# Altium schematic symbol library jlcpcb_2025_04_capacitors_extended_1812.schlib: 342 symbols (part 2 of 7)
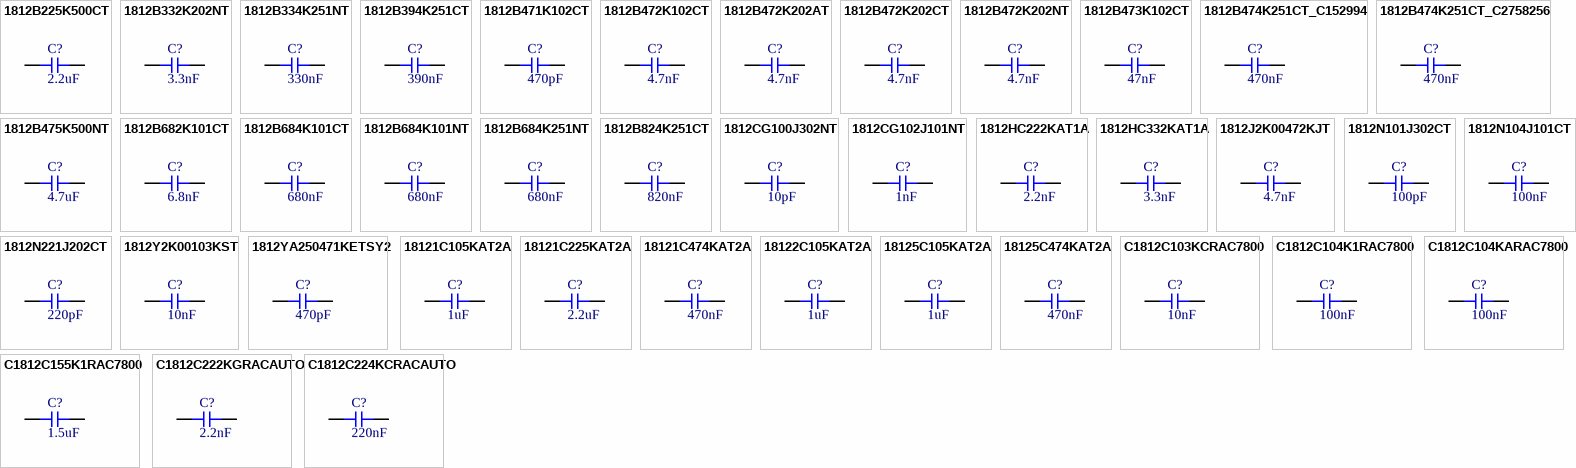
[diagram p9: symbols 1812B225K500CT to C1812C224KCRACAUTO]

## 1812B473K102CT
designator C?  Capacitance: 47nF  (hidden comment: *)
Capacitor, Ceramic (MLCC), 47nF, ±10%, 1kV, X7R, ±10%, SMD 1812; Manufacturer: Walsin Tech Corp; Manufacturer Part Number: 1812B473K102CT; Package Size: 1812; JLCPCB Basic Part: No; JLCPCB Part Number: C3880049; Supplier 1: LCSC; Category: Capacitors - MLCC; Supplier Part Number 1: C3880049; Tolerance: ±10%; Voltage Rating: 1kV; Temperature Coefficient: X7R; RoHS: Yes; ComponentLink1Description: Datasheet; ComponentLink1URL: https://wmsc.lcsc.com/wmsc/upload/file/pdf/v2/lcsc/2401181539_Walsin-Tech-Corp-1812B473K102CT_C3880049.pdf; ComponentLink2Description: JLCPCB Part URL; ComponentLink2URL: https://jlcpcb.com/partdetail/C3880049; ComponentLink3Description: LCSC Part URL; ComponentLink3URL: https://lcsc.com/product-detail/Multilayer-Ceramic-Capacitors-MLCC---SMD-SMT_Walsin-Tech-Corp-Walsin-Tech-Corp-1812B473K102CT_C3880049.html
footprint CAP-1812 (1812 (4532M) Capacitor)
pins: 1, 2

## 1812B474K251CT_C152994
designator C?  Capacitance: 470nF  (hidden comment: *)
Capacitor, Ceramic (MLCC), 470nF, ±10%, 250V, X7R, ±10%, SMD 1812; Manufacturer: Walsin Tech Corp; Manufacturer Part Number: 1812B474K251CT; Package Size: 1812; JLCPCB Basic Part: No; JLCPCB Part Number: C152994; Supplier 1: LCSC; Category: Capacitors - MLCC; Supplier Part Number 1: C152994; Tolerance: ±10%; Voltage Rating: 250V; Temperature Coefficient: X7R; RoHS: Yes; ComponentLink1Description: Datasheet; ComponentLink1URL: https://wmsc.lcsc.com/wmsc/upload/file/pdf/v2/lcsc/2304140030_Walsin-Tech-Corp-1812B474K251CT_C152994.pdf; ComponentLink2Description: JLCPCB Part URL; ComponentLink2URL: https://jlcpcb.com/partdetail/C152994; ComponentLink3Description: LCSC Part URL; ComponentLink3URL: https://lcsc.com/product-detail/Multilayer-Ceramic-Capacitors-MLCC---SMD-SMT_Walsin-Tech-Corp-Walsin-Tech-Corp-1812B474K251CT_C152994.html
footprint CAP-1812 (1812 (4532M) Capacitor)
pins: 1, 2

## 1812B474K251CT_C2758256
designator C?  Capacitance: 470nF  (hidden comment: *)
Capacitor, Ceramic (MLCC), 470nF, ±10%, 250V, X7R, ±10%, SMD 1812; Manufacturer: Walsin Tech Corp; Manufacturer Part Number: 1812B474K251CT; Package Size: 1812; JLCPCB Basic Part: No; JLCPCB Part Number: C2758256; Supplier 1: LCSC; Category: Capacitors - MLCC; Supplier Part Number 1: C2758256; Tolerance: ±10%; Voltage Rating: 250V; Temperature Coefficient: X7R; RoHS: Yes; ComponentLink1Description: Datasheet; ComponentLink1URL: https://wmsc.lcsc.com/wmsc/upload/file/pdf/v2/lcsc/2304140030_Walsin-Tech-Corp-1812B474K251CT_C2758256.pdf; ComponentLink2Description: JLCPCB Part URL; ComponentLink2URL: https://jlcpcb.com/partdetail/C2758256; ComponentLink3Description: LCSC Part URL; ComponentLink3URL: https://lcsc.com/product-detail/Multilayer-Ceramic-Capacitors-MLCC---SMD-SMT_Walsin-Tech-Corp-Walsin-Tech-Corp-1812B474K251CT_C2758256.html
footprint CAP-1812 (1812 (4532M) Capacitor)
pins: 1, 2

## 1812B475K500NT
designator C?  Capacitance: 4.7uF  (hidden comment: *)
Capacitor, Ceramic (MLCC), 4.7uF, ±10%, 50V, X7R, ±10%, SMD 1812; Manufacturer: FH(Guangdong Fenghua Advanced Tech); Manufacturer Part Number: 1812B475K500NT; Package Size: 1812; JLCPCB Basic Part: No; JLCPCB Part Number: C24976; Supplier 1: LCSC; Category: Capacitors - MLCC; Supplier Part Number 1: C24976; Tolerance: ±10%; Voltage Rating: 50V; Temperature Coefficient: X7R; RoHS: Yes; ComponentLink1Description: Datasheet; ComponentLink1URL: https://wmsc.lcsc.com/wmsc/upload/file/pdf/v2/lcsc/2304140030_FH--Guangdong-Fenghua-Advanced-Tech-1812B475K500NT_C24976.pdf; ComponentLink2Description: JLCPCB Part URL; ComponentLink2URL: https://jlcpcb.com/partdetail/C24976; ComponentLink3Description: LCSC Part URL; ComponentLink3URL: https://lcsc.com/product-detail/Multilayer-Ceramic-Capacitors-MLCC---SMD-SMT_FH-Guangdong-Fenghua-Advanced-Tech-FH-Guangdong-Fenghua-Advanced-Tech-1812B475K500NT_C24976.html
footprint CAP-1812 (1812 (4532M) Capacitor)
pins: 1, 2

## 1812B682K101CT
designator C?  Capacitance: 6.8nF  (hidden comment: *)
Capacitor, Ceramic (MLCC), 6.8nF, ±10%, 100V, X7R, ±10%, SMD 1812; Manufacturer: Walsin Tech Corp; Manufacturer Part Number: 1812B682K101CT; Package Size: 1812; JLCPCB Basic Part: No; JLCPCB Part Number: C152993; Supplier 1: LCSC; Category: Capacitors - MLCC; Supplier Part Number 1: C152993; Tolerance: ±10%; Voltage Rating: 100V; Temperature Coefficient: X7R; RoHS: Yes; ComponentLink1Description: Datasheet; ComponentLink1URL: https://wmsc.lcsc.com/wmsc/upload/file/pdf/v2/lcsc/2304140030_Walsin-Tech-Corp-1812B682K101CT_C152993.pdf; ComponentLink2Description: JLCPCB Part URL; ComponentLink2URL: https://jlcpcb.com/partdetail/C152993; ComponentLink3Description: LCSC Part URL; ComponentLink3URL: https://lcsc.com/product-detail/Multilayer-Ceramic-Capacitors-MLCC---SMD-SMT_Walsin-Tech-Corp-Walsin-Tech-Corp-1812B682K101CT_C152993.html
footprint CAP-1812 (1812 (4532M) Capacitor)
pins: 1, 2

## 1812B684K101CT
designator C?  Capacitance: 680nF  (hidden comment: *)
Capacitor, Ceramic (MLCC), 680nF, ±10%, 100V, X7R, ±10%, SMD 1812; Manufacturer: Walsin Tech Corp; Manufacturer Part Number: 1812B684K101CT; Package Size: 1812; JLCPCB Basic Part: No; JLCPCB Part Number: C237233; Supplier 1: LCSC; Category: Capacitors - MLCC; Supplier Part Number 1: C237233; Tolerance: ±10%; Voltage Rating: 100V; Temperature Coefficient: X7R; RoHS: Yes; ComponentLink1Description: Datasheet; ComponentLink1URL: https://wmsc.lcsc.com/wmsc/upload/file/pdf/v2/lcsc/2304140030_Walsin-Tech-Corp-1812B684K101CT_C237233.pdf; ComponentLink2Description: JLCPCB Part URL; ComponentLink2URL: https://jlcpcb.com/partdetail/C237233; ComponentLink3Description: LCSC Part URL; ComponentLink3URL: https://lcsc.com/product-detail/Multilayer-Ceramic-Capacitors-MLCC---SMD-SMT_Walsin-Tech-Corp-Walsin-Tech-Corp-1812B684K101CT_C237233.html
footprint CAP-1812 (1812 (4532M) Capacitor)
pins: 1, 2

## 1812B684K101NT
designator C?  Capacitance: 680nF  (hidden comment: *)
Capacitor, Ceramic (MLCC), 680nF, ±10%, 100V, X7R, ±10%, SMD 1812; Manufacturer: FH(Guangdong Fenghua Advanced Tech); Manufacturer Part Number: 1812B684K101NT; Package Size: 1812; JLCPCB Basic Part: No; JLCPCB Part Number: C50719; Supplier 1: LCSC; Category: Capacitors - MLCC; Supplier Part Number 1: C50719; Tolerance: ±10%; Voltage Rating: 100V; Temperature Coefficient: X7R; RoHS: Yes; ComponentLink1Description: Datasheet; ComponentLink1URL: https://wmsc.lcsc.com/wmsc/upload/file/pdf/v2/lcsc/2304140030_FH--Guangdong-Fenghua-Advanced-Tech-1812B684K101NT_C50719.pdf; ComponentLink2Description: JLCPCB Part URL; ComponentLink2URL: https://jlcpcb.com/partdetail/C50719; ComponentLink3Description: LCSC Part URL; ComponentLink3URL: https://lcsc.com/product-detail/Multilayer-Ceramic-Capacitors-MLCC---SMD-SMT_FH-Guangdong-Fenghua-Advanced-Tech-FH-Guangdong-Fenghua-Advanced-Tech-1812B684K101NT_C50719.html
footprint CAP-1812 (1812 (4532M) Capacitor)
pins: 1, 2

## 1812B684K251NT
designator C?  Capacitance: 680nF  (hidden comment: *)
Capacitor, Ceramic (MLCC), 680nF, ±10%, 250V, ±10%, SMD 1812; Manufacturer: FH (Guangdong Fenghua Advanced Tech); Manufacturer Part Number: 1812B684K251NT; Package Size: 1812; JLCPCB Basic Part: No; JLCPCB Part Number: C967615; Supplier 1: LCSC; Category: Capacitors - MLCC; Supplier Part Number 1: C967615; Tolerance: ±10%; Voltage Rating: 250V; RoHS: Yes; ComponentLink1Description: Datasheet; ComponentLink1URL: https://wmsc.lcsc.com/wmsc/upload/file/pdf/v2/lcsc/2304140030_FH--Guangdong-Fenghua-Advanced-Tech-1812B684K251NT_C967615.pdf; ComponentLink2Description: JLCPCB Part URL; ComponentLink2URL: https://jlcpcb.com/partdetail/C967615; ComponentLink3Description: LCSC Part URL; ComponentLink3URL: https://lcsc.com/product-detail/Multilayer-Ceramic-Capacitors-MLCC---SMD-SMT_FH-Guangdong-Fenghua-Advanced-Tech-FH-Guangdong-Fenghua-Advanced-Tech-1812B684K251NT_C967615.html
footprint CAP-1812 (1812 (4532M) Capacitor)
pins: 1, 2

## 1812B824K251CT
designator C?  Capacitance: 820nF  (hidden comment: *)
Capacitor, Ceramic (MLCC), 820nF, ±10%, 250V, X7R, ±10%, SMD 1812; Manufacturer: Walsin Tech Corp; Manufacturer Part Number: 1812B824K251CT; Package Size: 1812; JLCPCB Basic Part: No; JLCPCB Part Number: C384706; Supplier 1: LCSC; Category: Capacitors - MLCC; Supplier Part Number 1: C384706; Tolerance: ±10%; Voltage Rating: 250V; Temperature Coefficient: X7R; RoHS: Yes; ComponentLink1Description: Datasheet; ComponentLink1URL: https://wmsc.lcsc.com/wmsc/upload/file/pdf/v2/lcsc/2304140030_Walsin-Tech-Corp-1812B824K251CT_C384706.pdf; ComponentLink2Description: JLCPCB Part URL; ComponentLink2URL: https://jlcpcb.com/partdetail/C384706; ComponentLink3Description: LCSC Part URL; ComponentLink3URL: https://lcsc.com/product-detail/Multilayer-Ceramic-Capacitors-MLCC---SMD-SMT_Walsin-Tech-Corp-Walsin-Tech-Corp-1812B824K251CT_C384706.html
footprint CAP-1812 (1812 (4532M) Capacitor)
pins: 1, 2

## 1812CG100J302NT
designator C?  Capacitance: 10pF  (hidden comment: *)
Capacitor, Ceramic (MLCC), 10pF, ±5%, 3kV, C0G, ±5%, SMD 1812; Manufacturer: FH(Guangdong Fenghua Advanced Tech); Manufacturer Part Number: 1812CG100J302NT; Package Size: 1812; JLCPCB Basic Part: No; JLCPCB Part Number: C880261; Supplier 1: LCSC; Category: Capacitors - MLCC; Supplier Part Number 1: C880261; Tolerance: ±5%; Voltage Rating: 3kV; Temperature Coefficient: C0G; RoHS: Yes; ComponentLink1Description: Datasheet; ComponentLink1URL: https://wmsc.lcsc.com/wmsc/upload/file/pdf/v2/lcsc/2304140030_FH--Guangdong-Fenghua-Advanced-Tech-1812CG100J302NT_C880261.pdf; ComponentLink2Description: JLCPCB Part URL; ComponentLink2URL: https://jlcpcb.com/partdetail/C880261; ComponentLink3Description: LCSC Part URL; ComponentLink3URL: https://lcsc.com/product-detail/Multilayer-Ceramic-Capacitors-MLCC---SMD-SMT_FH-Guangdong-Fenghua-Advanced-Tech-FH-Guangdong-Fenghua-Advanced-Tech-1812CG100J302NT_C880261.html
footprint CAP-1812 (1812 (4532M) Capacitor)
pins: 1, 2

## 1812CG102J101NT
designator C?  Capacitance: 1nF  (hidden comment: *)
Capacitor, Ceramic (MLCC), 1nF, 100V, C0G, SMD 1812; Manufacturer: FH (Guangdong Fenghua Advanced Tech); Manufacturer Part Number: 1812CG102J101NT; Package Size: 1812; JLCPCB Basic Part: No; JLCPCB Part Number: C3037691; Supplier 1: LCSC; Category: Capacitors - MLCC; Supplier Part Number 1: C3037691; Voltage Rating: 100V; Temperature Coefficient: C0G; RoHS: Yes; ComponentLink1Description: Datasheet; ComponentLink1URL: https://wmsc.lcsc.com/wmsc/upload/file/pdf/v2/lcsc/2206171645_FH--Guangdong-Fenghua-Advanced-Tech-1812CG102J101NT_C3037691.pdf; ComponentLink2Description: JLCPCB Part URL; ComponentLink2URL: https://jlcpcb.com/partdetail/C3037691; ComponentLink3Description: LCSC Part URL; ComponentLink3URL: https://lcsc.com/product-detail/Multilayer-Ceramic-Capacitors-MLCC---SMD-SMT_FH-Guangdong-Fenghua-Advanced-Tech-FH-Guangdong-Fenghua-Advanced-Tech-1812CG102J101NT_C3037691.html
footprint CAP-1812 (1812 (4532M) Capacitor)
pins: 1, 2

## 1812HC222KAT1A
designator C?  Capacitance: 2.2nF  (hidden comment: *)
Capacitor, Ceramic (MLCC), 2.2nF, ±10%, 3kV, X7R, ±10%, SMD 1812; Manufacturer: Kyocera AVX; Manufacturer Part Number: 1812HC222KAT1A; Package Size: 1812; JLCPCB Basic Part: No; JLCPCB Part Number: C2168035; Supplier 1: LCSC; Category: Capacitors - MLCC; Supplier Part Number 1: C2168035; Tolerance: ±10%; Voltage Rating: 3kV; Temperature Coefficient: X7R; RoHS: Yes; ComponentLink1Description: Datasheet; ComponentLink1URL: https://wmsc.lcsc.com/wmsc/upload/file/pdf/v2/lcsc/2309151035_Kyocera-AVX-1812HC222KAT1A_C2168035.pdf; ComponentLink2Description: JLCPCB Part URL; ComponentLink2URL: https://jlcpcb.com/partdetail/C2168035; ComponentLink3Description: LCSC Part URL; ComponentLink3URL: https://lcsc.com/product-detail/Multilayer-Ceramic-Capacitors-MLCC---SMD-SMT_Kyocera-AVX-Kyocera-AVX-1812HC222KAT1A_C2168035.html
footprint CAP-1812 (1812 (4532M) Capacitor)
pins: 1, 2

## 1812HC332KAT1A
designator C?  Capacitance: 3.3nF  (hidden comment: *)
Capacitor, Ceramic (MLCC), 3.3nF, ±10%, 3kV, X7R, ±10%, SMD 1812; Manufacturer: AVX; Manufacturer Part Number: 1812HC332KAT1A; Package Size: 1812; JLCPCB Basic Part: No; JLCPCB Part Number: C597622; Supplier 1: LCSC; Category: Capacitors - MLCC; Supplier Part Number 1: C597622; Tolerance: ±10%; Voltage Rating: 3kV; Temperature Coefficient: X7R; RoHS: Yes; ComponentLink1Description: Datasheet; ComponentLink1URL: https://wmsc.lcsc.com/wmsc/upload/file/pdf/v2/lcsc/2304140030_Kyocera-AVX-1812HC332KAT1A_C597622.pdf; ComponentLink2Description: JLCPCB Part URL; ComponentLink2URL: https://jlcpcb.com/partdetail/C597622; ComponentLink3Description: LCSC Part URL; ComponentLink3URL: https://lcsc.com/product-detail/Multilayer-Ceramic-Capacitors-MLCC---SMD-SMT_Kyocera-AVX-Kyocera-AVX-1812HC332KAT1A_C597622.html
footprint CAP-1812 (1812 (4532M) Capacitor)
pins: 1, 2

## 1812J2K00472KJT
designator C?  Capacitance: 4.7nF  (hidden comment: *)
Capacitor, Ceramic (MLCC), 4.7nF, ±10%, 2kV, X7R, ±10%, SMD 1812; Manufacturer: Knowles; Manufacturer Part Number: 1812J2K00472KJT; Package Size: 1812; JLCPCB Basic Part: No; JLCPCB Part Number: C340548; Supplier 1: LCSC; Category: Capacitors - MLCC; Supplier Part Number 1: C340548; Tolerance: ±10%; Voltage Rating: 2kV; Temperature Coefficient: X7R; RoHS: Yes; ComponentLink1Description: Datasheet; ComponentLink1URL: https://wmsc.lcsc.com/wmsc/upload/file/pdf/v2/lcsc/1912111437_Knowles-1812J2K00472KJT_C340548.pdf; ComponentLink2Description: JLCPCB Part URL; ComponentLink2URL: https://jlcpcb.com/partdetail/C340548; ComponentLink3Description: LCSC Part URL; ComponentLink3URL: https://lcsc.com/product-detail/Multilayer-Ceramic-Capacitors-MLCC---SMD-SMT_Knowles-Knowles-1812J2K00472KJT_C340548.html
footprint CAP-1812 (1812 (4532M) Capacitor)
pins: 1, 2

## 1812N101J302CT
designator C?  Capacitance: 100pF  (hidden comment: *)
Capacitor, Ceramic (MLCC), 100pF, ±5%, 3kV, C0G, ±5%, SMD 1812; Manufacturer: Walsin Tech Corp; Manufacturer Part Number: 1812N101J302CT; Package Size: 1812; JLCPCB Basic Part: No; JLCPCB Part Number: C3871135; Supplier 1: LCSC; Category: Capacitors - MLCC; Supplier Part Number 1: C3871135; Tolerance: ±5%; Voltage Rating: 3kV; Temperature Coefficient: C0G; RoHS: Yes; ComponentLink1Description: Datasheet; ComponentLink1URL: https://wmsc.lcsc.com/wmsc/upload/file/pdf/v2/lcsc/2401181515_Walsin-Tech-Corp-1812N101J302CT_C3871135.pdf; ComponentLink2Description: JLCPCB Part URL; ComponentLink2URL: https://jlcpcb.com/partdetail/C3871135; ComponentLink3Description: LCSC Part URL; ComponentLink3URL: https://lcsc.com/product-detail/Multilayer-Ceramic-Capacitors-MLCC---SMD-SMT_Walsin-Tech-Corp-Walsin-Tech-Corp-1812N101J302CT_C3871135.html
footprint CAP-1812 (1812 (4532M) Capacitor)
pins: 1, 2

## 1812N104J101CT
designator C?  Capacitance: 100nF  (hidden comment: *)
Capacitor, Ceramic (MLCC), 100nF, ±5%, 100V, NP0, ±5%, SMD 1812; Manufacturer: Walsin Tech Corp; Manufacturer Part Number: 1812N104J101CT; Package Size: 1812; JLCPCB Basic Part: No; JLCPCB Part Number: C304037; Supplier 1: LCSC; Category: Capacitors - MLCC; Supplier Part Number 1: C304037; Tolerance: ±5%; Voltage Rating: 100V; Temperature Coefficient: NP0; RoHS: Yes; ComponentLink1Description: Datasheet; ComponentLink1URL: https://wmsc.lcsc.com/wmsc/upload/file/pdf/v2/lcsc/2304231850_Walsin-Tech-Corp-1812N104J101CT_C304037.pdf; ComponentLink2Description: JLCPCB Part URL; ComponentLink2URL: https://jlcpcb.com/partdetail/C304037; ComponentLink3Description: LCSC Part URL; ComponentLink3URL: https://lcsc.com/product-detail/Multilayer-Ceramic-Capacitors-MLCC---SMD-SMT_Walsin-Tech-Corp-Walsin-Tech-Corp-1812N104J101CT_C304037.html
footprint CAP-1812 (1812 (4532M) Capacitor)
pins: 1, 2

## 1812N221J202CT
designator C?  Capacitance: 220pF  (hidden comment: *)
Capacitor, Ceramic (MLCC), 220pF, ±5%, 2kV, NP0, ±5%, SMD 1812; Manufacturer: Walsin Tech Corp; Manufacturer Part Number: 1812N221J202CT; Package Size: 1812; JLCPCB Basic Part: No; JLCPCB Part Number: C525510; Supplier 1: LCSC; Category: Capacitors - MLCC; Supplier Part Number 1: C525510; Tolerance: ±5%; Voltage Rating: 2kV; Temperature Coefficient: NP0; RoHS: Yes; ComponentLink1Description: Datasheet; ComponentLink1URL: https://wmsc.lcsc.com/wmsc/upload/file/pdf/v2/lcsc/2304140030_Walsin-Tech-Corp-1812N221J202CT_C525510.pdf; ComponentLink2Description: JLCPCB Part URL; ComponentLink2URL: https://jlcpcb.com/partdetail/C525510; ComponentLink3Description: LCSC Part URL; ComponentLink3URL: https://lcsc.com/product-detail/Multilayer-Ceramic-Capacitors-MLCC---SMD-SMT_Walsin-Tech-Corp-Walsin-Tech-Corp-1812N221J202CT_C525510.html
footprint CAP-1812 (1812 (4532M) Capacitor)
pins: 1, 2

## 1812Y2K00103KST
designator C?  Capacitance: 10nF  (hidden comment: *)
Capacitor, Ceramic (MLCC), 10nF, ±10%, 2kV, X7R, ±10%, SMD 1812; Manufacturer: Knowles; Manufacturer Part Number: 1812Y2K00103KST; Package Size: 1812; JLCPCB Basic Part: No; JLCPCB Part Number: C3870958; Supplier 1: LCSC; Category: Capacitors - MLCC; Supplier Part Number 1: C3870958; Tolerance: ±10%; Voltage Rating: 2kV; Temperature Coefficient: X7R; RoHS: Yes; ComponentLink1Description: Datasheet; ComponentLink2Description: JLCPCB Part URL; ComponentLink2URL: https://jlcpcb.com/partdetail/C3870958; ComponentLink3Description: LCSC Part URL; ComponentLink3URL: https://lcsc.com/product-detail/Multilayer-Ceramic-Capacitors-MLCC---SMD-SMT_Knowles-Knowles-1812Y2K00103KST_C3870958.html
footprint CAP-1812 (1812 (4532M) Capacitor)
pins: 1, 2

## 1812YA250471KETSY2
designator C?  Capacitance: 470pF  (hidden comment: *)
Capacitor, Ceramic (MLCC), 470pF, ±10%, 2.5kV, X7R, ±10%, SMD 1812; Manufacturer: Knowles; Manufacturer Part Number: 1812YA250471KETSY2; Package Size: 1812; JLCPCB Basic Part: No; JLCPCB Part Number: C340486; Supplier 1: LCSC; Category: Capacitors - MLCC; Supplier Part Number 1: C340486; Tolerance: ±10%; Voltage Rating: 2.5kV; Temperature Coefficient: X7R; RoHS: Yes; ComponentLink1Description: Datasheet; ComponentLink1URL: https://wmsc.lcsc.com/wmsc/upload/file/pdf/v2/lcsc/1912111437_Knowles-1812YA250471KETSY2_C340486.pdf; ComponentLink2Description: JLCPCB Part URL; ComponentLink2URL: https://jlcpcb.com/partdetail/C340486; ComponentLink3Description: LCSC Part URL; ComponentLink3URL: https://lcsc.com/product-detail/Multilayer-Ceramic-Capacitors-MLCC---SMD-SMT_Knowles-Knowles-1812YA250471KETSY2_C340486.html
footprint CAP-1812 (1812 (4532M) Capacitor)
pins: 1, 2

## 18121C105KAT2A
designator C?  Capacitance: 1uF  (hidden comment: *)
Capacitor, Ceramic (MLCC), 1uF, ±10%, 100V, X7R, ±10%, SMD 1812; Manufacturer: Kyocera AVX; Manufacturer Part Number: 18121C105KAT2A; Package Size: 1812; JLCPCB Basic Part: No; JLCPCB Part Number: C1845511; Supplier 1: LCSC; Category: Capacitors - MLCC; Supplier Part Number 1: C1845511; Tolerance: ±10%; Voltage Rating: 100V; Temperature Coefficient: X7R; RoHS: Yes; ComponentLink1Description: Datasheet; ComponentLink2Description: JLCPCB Part URL; ComponentLink2URL: https://jlcpcb.com/partdetail/C1845511; ComponentLink3Description: LCSC Part URL; ComponentLink3URL: https://lcsc.com/product-detail/Multilayer-Ceramic-Capacitors-MLCC---SMD-SMT_Kyocera-AVX-Kyocera-AVX-18121C105KAT2A_C1845511.html
footprint CAP-1812 (1812 (4532M) Capacitor)
pins: 1, 2

## 18121C225KAT2A
designator C?  Capacitance: 2.2uF  (hidden comment: *)
Capacitor, Ceramic (MLCC), 2.2uF, ±10%, 100V, X7R, ±10%, SMD 1812; Manufacturer: AVX; Manufacturer Part Number: 18121C225KAT2A; Package Size: 1812; JLCPCB Basic Part: No; JLCPCB Part Number: C597606; Supplier 1: LCSC; Category: Capacitors - MLCC; Supplier Part Number 1: C597606; Tolerance: ±10%; Voltage Rating: 100V; Temperature Coefficient: X7R; RoHS: Yes; ComponentLink1Description: Datasheet; ComponentLink1URL: https://wmsc.lcsc.com/wmsc/upload/file/pdf/v2/lcsc/2304140030_Kyocera-AVX-18121C225KAT2A_C597606.pdf; ComponentLink2Description: JLCPCB Part URL; ComponentLink2URL: https://jlcpcb.com/partdetail/C597606; ComponentLink3Description: LCSC Part URL; ComponentLink3URL: https://lcsc.com/product-detail/Multilayer-Ceramic-Capacitors-MLCC---SMD-SMT_Kyocera-AVX-Kyocera-AVX-18121C225KAT2A_C597606.html
footprint CAP-1812 (1812 (4532M) Capacitor)
pins: 1, 2

## 18121C474KAT2A
designator C?  Capacitance: 470nF  (hidden comment: *)
Capacitor, Ceramic (MLCC), 470nF, ±10%, 100V, X7R, ±10%, SMD 1812; Manufacturer: Kyocera AVX; Manufacturer Part Number: 18121C474KAT2A; Package Size: 1812; JLCPCB Basic Part: No; JLCPCB Part Number: C669101; Supplier 1: LCSC; Category: Capacitors - MLCC; Supplier Part Number 1: C669101; Tolerance: ±10%; Voltage Rating: 100V; Temperature Coefficient: X7R; RoHS: Yes; ComponentLink1Description: Datasheet; ComponentLink1URL: https://wmsc.lcsc.com/wmsc/upload/file/pdf/v2/lcsc/2302142030_Kyocera-AVX-18121C474KAT2A_C669101.pdf; ComponentLink2Description: JLCPCB Part URL; ComponentLink2URL: https://jlcpcb.com/partdetail/C669101; ComponentLink3Description: LCSC Part URL; ComponentLink3URL: https://lcsc.com/product-detail/Multilayer-Ceramic-Capacitors-MLCC---SMD-SMT_Kyocera-AVX-Kyocera-AVX-18121C474KAT2A_C669101.html
footprint CAP-1812 (1812 (4532M) Capacitor)
pins: 1, 2

## 18122C105KAT2A
designator C?  Capacitance: 1uF  (hidden comment: *)
Capacitor, Ceramic (MLCC), 1uF, ±10%, 200V, X7R, ±10%, SMD 1812; Manufacturer: AVX; Manufacturer Part Number: 18122C105KAT2A; Package Size: 1812; JLCPCB Basic Part: No; JLCPCB Part Number: C597611; Supplier 1: LCSC; Category: Capacitors - MLCC; Supplier Part Number 1: C597611; Tolerance: ±10%; Voltage Rating: 200V; Temperature Coefficient: X7R; RoHS: Yes; ComponentLink1Description: Datasheet; ComponentLink1URL: https://wmsc.lcsc.com/wmsc/upload/file/pdf/v2/lcsc/2304140030_Kyocera-AVX-18122C105KAT2A_C597611.pdf; ComponentLink2Description: JLCPCB Part URL; ComponentLink2URL: https://jlcpcb.com/partdetail/C597611; ComponentLink3Description: LCSC Part URL; ComponentLink3URL: https://lcsc.com/product-detail/Multilayer-Ceramic-Capacitors-MLCC---SMD-SMT_Kyocera-AVX-Kyocera-AVX-18122C105KAT2A_C597611.html
footprint CAP-1812 (1812 (4532M) Capacitor)
pins: 1, 2

## 18125C105KAT2A
designator C?  Capacitance: 1uF  (hidden comment: *)
Capacitor, Ceramic (MLCC), 1uF, ±10%, 50V, X7R, ±10%, SMD 1812; Manufacturer: AVX; Manufacturer Part Number: 18125C105KAT2A; Package Size: 1812; JLCPCB Basic Part: No; JLCPCB Part Number: C597615; Supplier 1: LCSC; Category: Capacitors - MLCC; Supplier Part Number 1: C597615; Tolerance: ±10%; Voltage Rating: 50V; Temperature Coefficient: X7R; RoHS: Yes; ComponentLink1Description: Datasheet; ComponentLink1URL: https://wmsc.lcsc.com/wmsc/upload/file/pdf/v2/lcsc/2304140030_Kyocera-AVX-18125C105KAT2A_C597615.pdf; ComponentLink2Description: JLCPCB Part URL; ComponentLink2URL: https://jlcpcb.com/partdetail/C597615; ComponentLink3Description: LCSC Part URL; ComponentLink3URL: https://lcsc.com/product-detail/Multilayer-Ceramic-Capacitors-MLCC---SMD-SMT_Kyocera-AVX-Kyocera-AVX-18125C105KAT2A_C597615.html
footprint CAP-1812 (1812 (4532M) Capacitor)
pins: 1, 2

## 18125C474KAT2A
designator C?  Capacitance: 470nF  (hidden comment: *)
Capacitor, Ceramic (MLCC), 470nF, ±10%, 50V, X7R, ±10%, SMD 1812; Manufacturer: AVX; Manufacturer Part Number: 18125C474KAT2A; Package Size: 1812; JLCPCB Basic Part: No; JLCPCB Part Number: C597617; Supplier 1: LCSC; Category: Capacitors - MLCC; Supplier Part Number 1: C597617; Tolerance: ±10%; Voltage Rating: 50V; Temperature Coefficient: X7R; RoHS: Yes; ComponentLink1Description: Datasheet; ComponentLink1URL: https://wmsc.lcsc.com/wmsc/upload/file/pdf/v2/lcsc/2304140030_Kyocera-AVX-18125C474KAT2A_C597617.pdf; ComponentLink2Description: JLCPCB Part URL; ComponentLink2URL: https://jlcpcb.com/partdetail/C597617; ComponentLink3Description: LCSC Part URL; ComponentLink3URL: https://lcsc.com/product-detail/Multilayer-Ceramic-Capacitors-MLCC---SMD-SMT_Kyocera-AVX-Kyocera-AVX-18125C474KAT2A_C597617.html
footprint CAP-1812 (1812 (4532M) Capacitor)
pins: 1, 2

## C1812C103KCRAC7800
designator C?  Capacitance: 10nF  (hidden comment: *)
Capacitor, Ceramic (MLCC), 10nF, ±10%, 500V, X7R, ±10%, SMD 1812; Manufacturer: KEMET; Manufacturer Part Number: C1812C103KCRAC7800; Package Size: 1812; JLCPCB Basic Part: No; JLCPCB Part Number: C141242; Supplier 1: LCSC; Category: Capacitors - MLCC; Supplier Part Number 1: C141242; Tolerance: ±10%; Voltage Rating: 500V; Temperature Coefficient: X7R; RoHS: Yes; ComponentLink1Description: Datasheet; ComponentLink1URL: https://wmsc.lcsc.com/wmsc/upload/file/pdf/v2/lcsc/2304140030_KEMET-C1812C103KCRAC7800_C141242.pdf; ComponentLink2Description: JLCPCB Part URL; ComponentLink2URL: https://jlcpcb.com/partdetail/C141242; ComponentLink3Description: LCSC Part URL; ComponentLink3URL: https://lcsc.com/product-detail/Multilayer-Ceramic-Capacitors-MLCC---SMD-SMT_KEMET-KEMET-C1812C103KCRAC7800_C141242.html
footprint CAP-1812 (1812 (4532M) Capacitor)
pins: 1, 2

## C1812C104K1RAC7800
designator C?  Capacitance: 100nF  (hidden comment: *)
Capacitor, Ceramic (MLCC), 100nF, ±10%, 100V, X7R, ±10%, SMD 1812; Manufacturer: KEMET; Manufacturer Part Number: C1812C104K1RAC7800; Package Size: 1812; JLCPCB Basic Part: No; JLCPCB Part Number: C141243; Supplier 1: LCSC; Category: Capacitors - MLCC; Supplier Part Number 1: C141243; Tolerance: ±10%; Voltage Rating: 100V; Temperature Coefficient: X7R; RoHS: Yes; ComponentLink1Description: Datasheet; ComponentLink1URL: https://wmsc.lcsc.com/wmsc/upload/file/pdf/v2/lcsc/2304140030_KEMET-C1812C104K1RAC7800_C141243.pdf; ComponentLink2Description: JLCPCB Part URL; ComponentLink2URL: https://jlcpcb.com/partdetail/C141243; ComponentLink3Description: LCSC Part URL; ComponentLink3URL: https://lcsc.com/product-detail/Multilayer-Ceramic-Capacitors-MLCC---SMD-SMT_KEMET-KEMET-C1812C104K1RAC7800_C141243.html
footprint CAP-1812 (1812 (4532M) Capacitor)
pins: 1, 2

## C1812C104KARAC7800
designator C?  Capacitance: 100nF  (hidden comment: *)
Capacitor, Ceramic (MLCC), 100nF, ±10%, 250V, X7R, ±10%, SMD 1812; Manufacturer: KEMET; Manufacturer Part Number: C1812C104KARAC7800; Package Size: 1812; JLCPCB Basic Part: No; JLCPCB Part Number: C141244; Supplier 1: LCSC; Category: Capacitors - MLCC; Supplier Part Number 1: C141244; Tolerance: ±10%; Voltage Rating: 250V; Temperature Coefficient: X7R; RoHS: Yes; ComponentLink1Description: Datasheet; ComponentLink1URL: https://wmsc.lcsc.com/wmsc/upload/file/pdf/v2/lcsc/2304140030_KEMET-C1812C104KARAC7800_C141244.pdf; ComponentLink2Description: JLCPCB Part URL; ComponentLink2URL: https://jlcpcb.com/partdetail/C141244; ComponentLink3Description: LCSC Part URL; ComponentLink3URL: https://lcsc.com/product-detail/Multilayer-Ceramic-Capacitors-MLCC---SMD-SMT_KEMET-KEMET-C1812C104KARAC7800_C141244.html
footprint CAP-1812 (1812 (4532M) Capacitor)
pins: 1, 2

## C1812C155K1RAC7800
designator C?  Capacitance: 1.5uF  (hidden comment: *)
Capacitor, Ceramic (MLCC), 1.5uF, ±10%, 100V, X7R, ±10%, SMD 1812; Manufacturer: KEMET; Manufacturer Part Number: C1812C155K1RAC7800; Package Size: 1812; JLCPCB Basic Part: No; JLCPCB Part Number: C141246; Supplier 1: LCSC; Category: Capacitors - MLCC; Supplier Part Number 1: C141246; Tolerance: ±10%; Voltage Rating: 100V; Temperature Coefficient: X7R; RoHS: Yes; ComponentLink1Description: Datasheet; ComponentLink1URL: https://wmsc.lcsc.com/wmsc/upload/file/pdf/v2/lcsc/2304140030_KEMET-C1812C155K1RAC7800_C141246.pdf; ComponentLink2Description: JLCPCB Part URL; ComponentLink2URL: https://jlcpcb.com/partdetail/C141246; ComponentLink3Description: LCSC Part URL; ComponentLink3URL: https://lcsc.com/product-detail/Multilayer-Ceramic-Capacitors-MLCC---SMD-SMT_KEMET-KEMET-C1812C155K1RAC7800_C141246.html
footprint CAP-1812 (1812 (4532M) Capacitor)
pins: 1, 2

## C1812C222KGRACAUTO
designator C?  Capacitance: 2.2nF  (hidden comment: *)
Capacitor, Ceramic (MLCC), 2.2nF, ±10%, 2kV, X7R, ±10%, SMD 1812; Manufacturer: KEMET; Manufacturer Part Number: C1812C222KGRACAUTO; Package Size: 1812; JLCPCB Basic Part: No; JLCPCB Part Number: C129679; Supplier 1: LCSC; Category: Capacitors - MLCC; Supplier Part Number 1: C129679; Tolerance: ±10%; Voltage Rating: 2kV; Temperature Coefficient: X7R; RoHS: Yes; ComponentLink1Description: Datasheet; ComponentLink1URL: https://wmsc.lcsc.com/wmsc/upload/file/pdf/v2/lcsc/2304140030_KEMET-C1812C222KGRACAUTO_C129679.pdf; ComponentLink2Description: JLCPCB Part URL; ComponentLink2URL: https://jlcpcb.com/partdetail/C129679; ComponentLink3Description: LCSC Part URL; ComponentLink3URL: https://lcsc.com/product-detail/Multilayer-Ceramic-Capacitors-MLCC---SMD-SMT_KEMET-KEMET-C1812C222KGRACAUTO_C129679.html
footprint CAP-1812 (1812 (4532M) Capacitor)
pins: 1, 2

## C1812C224KCRACAUTO
designator C?  Capacitance: 220nF  (hidden comment: *)
Capacitor, Ceramic (MLCC), 220nF, ±10%, 500V, X7R, ±10%, SMD 1812; Manufacturer: KEMET; Manufacturer Part Number: C1812C224KCRACAUTO; Package Size: 1812; JLCPCB Basic Part: No; JLCPCB Part Number: C2177322; Supplier 1: LCSC; Category: Capacitors - MLCC; Supplier Part Number 1: C2177322; Tolerance: ±10%; Voltage Rating: 500V; Temperature Coefficient: X7R; RoHS: Yes; ComponentLink1Description: Datasheet; ComponentLink1URL: https://wmsc.lcsc.com/wmsc/upload/file/pdf/v2/lcsc/2304140030_KEMET-C1812C224KCRACAUTO_C2177322.pdf; ComponentLink2Description: JLCPCB Part URL; ComponentLink2URL: https://jlcpcb.com/partdetail/C2177322; ComponentLink3Description: LCSC Part URL; ComponentLink3URL: https://lcsc.com/product-detail/Multilayer-Ceramic-Capacitors-MLCC---SMD-SMT_KEMET-KEMET-C1812C224KCRACAUTO_C2177322.html
footprint CAP-1812 (1812 (4532M) Capacitor)
pins: 1, 2

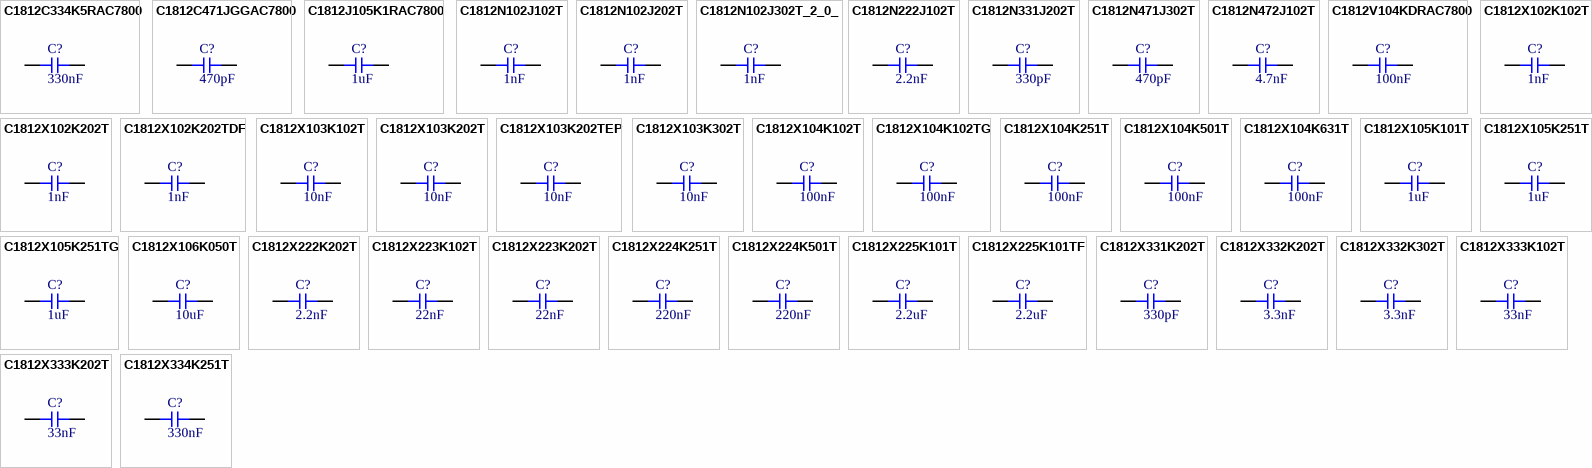
[diagram p2: symbols C1812C334K5RAC7800 to C1812X334K251T]

## C1812C334K5RAC7800
designator C?  Capacitance: 330nF  (hidden comment: *)
Capacitor, Ceramic (MLCC), 330nF, ±10%, 50V, X7R, ±10%, SMD 1812; Manufacturer: KEMET; Manufacturer Part Number: C1812C334K5RAC7800; Package Size: 1812; JLCPCB Basic Part: No; JLCPCB Part Number: C600168; Supplier 1: LCSC; Category: Capacitors - MLCC; Supplier Part Number 1: C600168; Tolerance: ±10%; Voltage Rating: 50V; Temperature Coefficient: X7R; RoHS: Yes; ComponentLink1Description: Datasheet; ComponentLink1URL: https://wmsc.lcsc.com/wmsc/upload/file/pdf/v2/lcsc/2304140030_KEMET-C1812C334K5RAC7800_C600168.pdf; ComponentLink2Description: JLCPCB Part URL; ComponentLink2URL: https://jlcpcb.com/partdetail/C600168; ComponentLink3Description: LCSC Part URL; ComponentLink3URL: https://lcsc.com/product-detail/Multilayer-Ceramic-Capacitors-MLCC---SMD-SMT_KEMET-KEMET-C1812C334K5RAC7800_C600168.html
footprint CAP-1812 (1812 (4532M) Capacitor)
pins: 1, 2

## C1812C471JGGAC7800
designator C?  Capacitance: 470pF  (hidden comment: *)
Capacitor, Ceramic (MLCC), 470pF, ±5%, 2kV, C0G, ±5%, SMD 1812; Manufacturer: KEMET; Manufacturer Part Number: C1812C471JGGAC7800; Package Size: 1812; JLCPCB Basic Part: No; JLCPCB Part Number: C141021; Supplier 1: LCSC; Category: Capacitors - MLCC; Supplier Part Number 1: C141021; Tolerance: ±5%; Voltage Rating: 2kV; Temperature Coefficient: C0G; RoHS: Yes; ComponentLink1Description: Datasheet; ComponentLink1URL: https://wmsc.lcsc.com/wmsc/upload/file/pdf/v2/lcsc/2304140030_KEMET-C1812C471JGGAC7800_C141021.pdf; ComponentLink2Description: JLCPCB Part URL; ComponentLink2URL: https://jlcpcb.com/partdetail/C141021; ComponentLink3Description: LCSC Part URL; ComponentLink3URL: https://lcsc.com/product-detail/Multilayer-Ceramic-Capacitors-MLCC---SMD-SMT_KEMET-KEMET-C1812C471JGGAC7800_C141021.html
footprint CAP-1812 (1812 (4532M) Capacitor)
pins: 1, 2

## C1812J105K1RAC7800
designator C?  Capacitance: 1uF  (hidden comment: *)
Capacitor, Ceramic (MLCC), 1uF, ±10%, 100V, X7R, ±10%, SMD 1812; Manufacturer: KEMET; Manufacturer Part Number: C1812J105K1RAC7800; Package Size: 1812; JLCPCB Basic Part: No; JLCPCB Part Number: C141250; Supplier 1: LCSC; Category: Capacitors - MLCC; Supplier Part Number 1: C141250; Tolerance: ±10%; Voltage Rating: 100V; Temperature Coefficient: X7R; RoHS: Yes; ComponentLink1Description: Datasheet; ComponentLink1URL: https://wmsc.lcsc.com/wmsc/upload/file/pdf/v2/lcsc/1809031711_KEMET-C1812J105K1RAC7800_C141250.pdf; ComponentLink2Description: JLCPCB Part URL; ComponentLink2URL: https://jlcpcb.com/partdetail/C141250; ComponentLink3Description: LCSC Part URL; ComponentLink3URL: https://lcsc.com/product-detail/Multilayer-Ceramic-Capacitors-MLCC---SMD-SMT_KEMET-KEMET-C1812J105K1RAC7800_C141250.html
footprint CAP-1812 (1812 (4532M) Capacitor)
pins: 1, 2

## C1812N102J102T
designator C?  Capacitance: 1nF  (hidden comment: *)
Capacitor, Ceramic (MLCC), 1nF, ±5%, 1kV, NP0, ±5%, SMD 1812; Manufacturer: IHHEC(HOLY STONE ENTERPRISE CO., LTD); Manufacturer Part Number: C1812N102J102T; Package Size: 1812; JLCPCB Basic Part: No; JLCPCB Part Number: C3041225; Supplier 1: LCSC; Category: Capacitors - MLCC; Supplier Part Number 1: C3041225; Tolerance: ±5%; Voltage Rating: 1kV; Temperature Coefficient: NP0; RoHS: Yes; ComponentLink1Description: Datasheet; ComponentLink1URL: https://wmsc.lcsc.com/wmsc/upload/file/pdf/v2/lcsc/2207041730_IHHEC-HOLY-STONE-ENTERPRISE-CO---LTD-C1812N102J102T_C3041225.pdf; ComponentLink2Description: JLCPCB Part URL; ComponentLink2URL: https://jlcpcb.com/partdetail/C3041225; ComponentLink3Description: LCSC Part URL; ComponentLink3URL: https://lcsc.com/product-detail/Multilayer-Ceramic-Capacitors-MLCC---SMD-SMT_IHHECHOLY-STONE-ENTERPRISE-CO.%2C-LTD-IHHECHOLY-STONE-ENTERPRISE-CO.%2C-LTD-C1812N102J102T_C3041225.html
footprint CAP-1812 (1812 (4532M) Capacitor)
pins: 1, 2

## C1812N102J202T
designator C?  Capacitance: 1nF  (hidden comment: *)
Capacitor, Ceramic (MLCC), 1nF, ±5%, 2kV, C0G, ±5%, SMD 1812; Manufacturer: IHHEC(HOLY STONE ENTERPRISE CO., LTD); Manufacturer Part Number: C1812N102J202T; Package Size: 1812; JLCPCB Basic Part: No; JLCPCB Part Number: C106132; Supplier 1: LCSC; Category: Capacitors - MLCC; Supplier Part Number 1: C106132; Tolerance: ±5%; Voltage Rating: 2kV; Temperature Coefficient: C0G; RoHS: Yes; ComponentLink1Description: Datasheet; ComponentLink1URL: https://wmsc.lcsc.com/wmsc/upload/file/pdf/v2/lcsc/2304140030_IHHEC-HOLY-STONE-ENTERPRISE-CO---LTD-C1812N102J202T_C106132.pdf; ComponentLink2Description: JLCPCB Part URL; ComponentLink2URL: https://jlcpcb.com/partdetail/C106132; ComponentLink3Description: LCSC Part URL; ComponentLink3URL: https://lcsc.com/product-detail/Multilayer-Ceramic-Capacitors-MLCC---SMD-SMT_IHHECHOLY-STONE-ENTERPRISE-CO.%2C-LTD-IHHECHOLY-STONE-ENTERPRISE-CO.%2C-LTD-C1812N102J202T_C106132.html
footprint CAP-1812 (1812 (4532M) Capacitor)
pins: 1, 2

## C1812N102J302T_2_0_
designator C?  Capacitance: 1nF  (hidden comment: *)
Capacitor, Ceramic (MLCC), 1nF, ±5%, 3kV, NP0, ±5%, SMD 1812; Manufacturer: IHHEC(HOLY STONE ENTERPRISE CO., LTD); Manufacturer Part Number: C1812N102J302T(2.0); Package Size: 1812; JLCPCB Basic Part: No; JLCPCB Part Number: C406333; Supplier 1: LCSC; Category: Capacitors - MLCC; Supplier Part Number 1: C406333; Tolerance: ±5%; Voltage Rating: 3kV; Temperature Coefficient: NP0; RoHS: Yes; ComponentLink1Description: Datasheet; ComponentLink1URL: https://wmsc.lcsc.com/wmsc/upload/file/pdf/v2/lcsc/2304140030_IHHEC-HOLY-STONE-ENTERPRISE-CO---LTD-C1812N102J302T-2-0_C406333.pdf; ComponentLink2Description: JLCPCB Part URL; ComponentLink2URL: https://jlcpcb.com/partdetail/C406333; ComponentLink3Description: LCSC Part URL; ComponentLink3URL: https://lcsc.com/product-detail/Multilayer-Ceramic-Capacitors-MLCC---SMD-SMT_IHHECHOLY-STONE-ENTERPRISE-CO.%2C-LTD-IHHECHOLY-STONE-ENTERPRISE-CO.%2C-LTD-C1812N102J302T2.0_C406333.html
footprint CAP-1812 (1812 (4532M) Capacitor)
pins: 1, 2

## C1812N222J102T
designator C?  Capacitance: 2.2nF  (hidden comment: *)
Capacitor, Ceramic (MLCC), 2.2nF, 1kV, NP0, SMD 1812; Manufacturer: IHHEC(HOLY STONE ENTERPRISE CO., LTD); Manufacturer Part Number: C1812N222J102T; Package Size: 1812; JLCPCB Basic Part: No; JLCPCB Part Number: C2915766; Supplier 1: LCSC; Category: Capacitors - MLCC; Supplier Part Number 1: C2915766; Voltage Rating: 1kV; Temperature Coefficient: NP0; RoHS: Yes; ComponentLink1Description: Datasheet; ComponentLink1URL: https://wmsc.lcsc.com/wmsc/upload/file/pdf/v2/lcsc/2205051716_IHHEC-HOLY-STONE-ENTERPRISE-CO---LTD-C1812N222J102T_C2915766.pdf; ComponentLink2Description: JLCPCB Part URL; ComponentLink2URL: https://jlcpcb.com/partdetail/C2915766; ComponentLink3Description: LCSC Part URL; ComponentLink3URL: https://lcsc.com/product-detail/Multilayer-Ceramic-Capacitors-MLCC---SMD-SMT_IHHECHOLY-STONE-ENTERPRISE-CO.%2C-LTD-IHHECHOLY-STONE-ENTERPRISE-CO.%2C-LTD-C1812N222J102T_C2915766.html
footprint CAP-1812 (1812 (4532M) Capacitor)
pins: 1, 2

## C1812N331J202T
designator C?  Capacitance: 330pF  (hidden comment: *)
Capacitor, Ceramic (MLCC), 330pF, ±5%, 2kV, C0G, ±5%, SMD 1812; Manufacturer: IHHEC(HOLY STONE ENTERPRISE CO., LTD); Manufacturer Part Number: C1812N331J202T; Package Size: 1812; JLCPCB Basic Part: No; JLCPCB Part Number: C106136; Supplier 1: LCSC; Category: Capacitors - MLCC; Supplier Part Number 1: C106136; Tolerance: ±5%; Voltage Rating: 2kV; Temperature Coefficient: C0G; RoHS: Yes; ComponentLink1Description: Datasheet; ComponentLink1URL: https://wmsc.lcsc.com/wmsc/upload/file/pdf/v2/lcsc/2304140030_IHHEC-HOLY-STONE-ENTERPRISE-CO---LTD-C1812N331J202T_C106136.pdf; ComponentLink2Description: JLCPCB Part URL; ComponentLink2URL: https://jlcpcb.com/partdetail/C106136; ComponentLink3Description: LCSC Part URL; ComponentLink3URL: https://lcsc.com/product-detail/Multilayer-Ceramic-Capacitors-MLCC---SMD-SMT_IHHECHOLY-STONE-ENTERPRISE-CO.%2C-LTD-IHHECHOLY-STONE-ENTERPRISE-CO.%2C-LTD-C1812N331J202T_C106136.html
footprint CAP-1812 (1812 (4532M) Capacitor)
pins: 1, 2

## C1812N471J302T
designator C?  Capacitance: 470pF  (hidden comment: *)
Capacitor, Ceramic (MLCC), 470pF, ±5%, 3kV, NP0, ±5%, SMD 1812; Manufacturer: IHHEC(HOLY STONE ENTERPRISE CO., LTD); Manufacturer Part Number: C1812N471J302T; Package Size: 1812; JLCPCB Basic Part: No; JLCPCB Part Number: C2998544; Supplier 1: LCSC; Category: Capacitors - MLCC; Supplier Part Number 1: C2998544; Tolerance: ±5%; Voltage Rating: 3kV; Temperature Coefficient: NP0; RoHS: Yes; ComponentLink1Description: Datasheet; ComponentLink1URL: https://wmsc.lcsc.com/wmsc/upload/file/pdf/v2/lcsc/2205051716_IHHEC-HOLY-STONE-ENTERPRISE-CO---LTD-C1812N471J302T_C2998544.pdf; ComponentLink2Description: JLCPCB Part URL; ComponentLink2URL: https://jlcpcb.com/partdetail/C2998544; ComponentLink3Description: LCSC Part URL; ComponentLink3URL: https://lcsc.com/product-detail/Multilayer-Ceramic-Capacitors-MLCC---SMD-SMT_IHHECHOLY-STONE-ENTERPRISE-CO.%2C-LTD-IHHECHOLY-STONE-ENTERPRISE-CO.%2C-LTD-C1812N471J302T_C2998544.html
footprint CAP-1812 (1812 (4532M) Capacitor)
pins: 1, 2

## C1812N472J102T
designator C?  Capacitance: 4.7nF  (hidden comment: *)
Capacitor, Ceramic (MLCC), 4.7nF, ±5%, 1kV, NP0, ±5%, SMD 1812; Manufacturer: IHHEC(HOLY STONE ENTERPRISE CO., LTD); Manufacturer Part Number: C1812N472J102T; Package Size: 1812; JLCPCB Basic Part: No; JLCPCB Part Number: C2940750; Supplier 1: LCSC; Category: Capacitors - MLCC; Supplier Part Number 1: C2940750; Tolerance: ±5%; Voltage Rating: 1kV; Temperature Coefficient: NP0; RoHS: Yes; ComponentLink1Description: Datasheet; ComponentLink1URL: https://wmsc.lcsc.com/wmsc/upload/file/pdf/v2/lcsc/2205051716_IHHEC-HOLY-STONE-ENTERPRISE-CO---LTD-C1812N472J102T_C2940750.pdf; ComponentLink2Description: JLCPCB Part URL; ComponentLink2URL: https://jlcpcb.com/partdetail/C2940750; ComponentLink3Description: LCSC Part URL; ComponentLink3URL: https://lcsc.com/product-detail/Multilayer-Ceramic-Capacitors-MLCC---SMD-SMT_IHHECHOLY-STONE-ENTERPRISE-CO.%2C-LTD-IHHECHOLY-STONE-ENTERPRISE-CO.%2C-LTD-C1812N472J102T_C2940750.html
footprint CAP-1812 (1812 (4532M) Capacitor)
pins: 1, 2

## C1812V104KDRAC7800
designator C?  Capacitance: 100nF  (hidden comment: *)
Capacitor, Ceramic (MLCC), 100nF, ±10%, 1kV, X7R, ±10%, SMD 1812; Manufacturer: KEMET; Manufacturer Part Number: C1812V104KDRAC7800; Package Size: 1812; JLCPCB Basic Part: No; JLCPCB Part Number: C600172; Supplier 1: LCSC; Category: Capacitors - MLCC; Supplier Part Number 1: C600172; Tolerance: ±10%; Voltage Rating: 1kV; Temperature Coefficient: X7R; RoHS: Yes; ComponentLink1Description: Datasheet; ComponentLink1URL: https://wmsc.lcsc.com/wmsc/upload/file/pdf/v2/lcsc/2304140030_KEMET-C1812V104KDRAC7800_C600172.pdf; ComponentLink2Description: JLCPCB Part URL; ComponentLink2URL: https://jlcpcb.com/partdetail/C600172; ComponentLink3Description: LCSC Part URL; ComponentLink3URL: https://lcsc.com/product-detail/Multilayer-Ceramic-Capacitors-MLCC---SMD-SMT_KEMET-KEMET-C1812V104KDRAC7800_C600172.html
footprint CAP-1812 (1812 (4532M) Capacitor)
pins: 1, 2

## C1812X102K102T
designator C?  Capacitance: 1nF  (hidden comment: *)
Capacitor, Ceramic (MLCC), 1nF, ±10%, 1kV, X7R, ±10%, SMD 1812; Manufacturer: IHHEC(HOLY STONE ENTERPRISE CO., LTD); Manufacturer Part Number: C1812X102K102T; Package Size: 1812; JLCPCB Basic Part: No; JLCPCB Part Number: C106141; Supplier 1: LCSC; Category: Capacitors - MLCC; Supplier Part Number 1: C106141; Tolerance: ±10%; Voltage Rating: 1kV; Temperature Coefficient: X7R; RoHS: Yes; ComponentLink1Description: Datasheet; ComponentLink1URL: https://wmsc.lcsc.com/wmsc/upload/file/pdf/v2/lcsc/2304140030_IHHEC-HOLY-STONE-ENTERPRISE-CO---LTD-C1812X102K102T_C106141.pdf; ComponentLink2Description: JLCPCB Part URL; ComponentLink2URL: https://jlcpcb.com/partdetail/C106141; ComponentLink3Description: LCSC Part URL; ComponentLink3URL: https://lcsc.com/product-detail/Multilayer-Ceramic-Capacitors-MLCC---SMD-SMT_IHHECHOLY-STONE-ENTERPRISE-CO.%2C-LTD-IHHECHOLY-STONE-ENTERPRISE-CO.%2C-LTD-C1812X102K102T_C106141.html
footprint CAP-1812 (1812 (4532M) Capacitor)
pins: 1, 2

## C1812X102K202T
designator C?  Capacitance: 1nF  (hidden comment: *)
Capacitor, Ceramic (MLCC), 1nF, ±10%, 2kV, X7R, ±10%, SMD 1812; Manufacturer: IHHEC(HOLY STONE ENTERPRISE CO., LTD); Manufacturer Part Number: C1812X102K202T; Package Size: 1812; JLCPCB Basic Part: No; JLCPCB Part Number: C106142; Supplier 1: LCSC; Category: Capacitors - MLCC; Supplier Part Number 1: C106142; Tolerance: ±10%; Voltage Rating: 2kV; Temperature Coefficient: X7R; RoHS: Yes; ComponentLink1Description: Datasheet; ComponentLink1URL: https://wmsc.lcsc.com/wmsc/upload/file/pdf/v2/lcsc/2304140030_IHHEC-HOLY-STONE-ENTERPRISE-CO---LTD-C1812X102K202T_C106142.pdf; ComponentLink2Description: JLCPCB Part URL; ComponentLink2URL: https://jlcpcb.com/partdetail/C106142; ComponentLink3Description: LCSC Part URL; ComponentLink3URL: https://lcsc.com/product-detail/Multilayer-Ceramic-Capacitors-MLCC---SMD-SMT_IHHECHOLY-STONE-ENTERPRISE-CO.%2C-LTD-IHHECHOLY-STONE-ENTERPRISE-CO.%2C-LTD-C1812X102K202T_C106142.html
footprint CAP-1812 (1812 (4532M) Capacitor)
pins: 1, 2

## C1812X102K202TDF
designator C?  Capacitance: 1nF  (hidden comment: *)
Capacitor, Ceramic (MLCC), 1nF, 2kV, X7R, SMD 1812; Manufacturer: IHHEC(HOLY STONE ENTERPRISE CO., LTD); Manufacturer Part Number: C1812X102K202TDF; Package Size: 1812; JLCPCB Basic Part: No; JLCPCB Part Number: C2991911; Supplier 1: LCSC; Category: Capacitors - MLCC; Supplier Part Number 1: C2991911; Voltage Rating: 2kV; Temperature Coefficient: X7R; RoHS: Yes; ComponentLink1Description: Datasheet; ComponentLink1URL: https://wmsc.lcsc.com/wmsc/upload/file/pdf/v2/lcsc/2204220915_IHHEC-HOLY-STONE-ENTERPRISE-CO---LTD-C1812X102K202TDF_C2991911.pdf; ComponentLink2Description: JLCPCB Part URL; ComponentLink2URL: https://jlcpcb.com/partdetail/C2991911; ComponentLink3Description: LCSC Part URL; ComponentLink3URL: https://lcsc.com/product-detail/Multilayer-Ceramic-Capacitors-MLCC---SMD-SMT_IHHECHOLY-STONE-ENTERPRISE-CO.%2C-LTD-IHHECHOLY-STONE-ENTERPRISE-CO.%2C-LTD-C1812X102K202TDF_C2991911.html
footprint CAP-1812 (1812 (4532M) Capacitor)
pins: 1, 2

## C1812X103K102T
designator C?  Capacitance: 10nF  (hidden comment: *)
Capacitor, Ceramic (MLCC), 10nF, ±10%, 1kV, X7R, ±10%, SMD 1812; Manufacturer: IHHEC(HOLY STONE ENTERPRISE CO., LTD); Manufacturer Part Number: C1812X103K102T; Package Size: 1812; JLCPCB Basic Part: No; JLCPCB Part Number: C106144; Supplier 1: LCSC; Category: Capacitors - MLCC; Supplier Part Number 1: C106144; Tolerance: ±10%; Voltage Rating: 1kV; Temperature Coefficient: X7R; RoHS: Yes; ComponentLink1Description: Datasheet; ComponentLink1URL: https://wmsc.lcsc.com/wmsc/upload/file/pdf/v2/lcsc/2304140030_IHHEC-HOLY-STONE-ENTERPRISE-CO---LTD-C1812X103K102T_C106144.pdf; ComponentLink2Description: JLCPCB Part URL; ComponentLink2URL: https://jlcpcb.com/partdetail/C106144; ComponentLink3Description: LCSC Part URL; ComponentLink3URL: https://lcsc.com/product-detail/Multilayer-Ceramic-Capacitors-MLCC---SMD-SMT_IHHECHOLY-STONE-ENTERPRISE-CO.%2C-LTD-IHHECHOLY-STONE-ENTERPRISE-CO.%2C-LTD-C1812X103K102T_C106144.html
footprint CAP-1812 (1812 (4532M) Capacitor)
pins: 1, 2

## C1812X103K202T
designator C?  Capacitance: 10nF  (hidden comment: *)
Capacitor, Ceramic (MLCC), 10nF, ±10%, 2kV, X7R, ±10%, SMD 1812; Manufacturer: IHHEC(HOLY STONE ENTERPRISE CO., LTD); Manufacturer Part Number: C1812X103K202T; Package Size: 1812; JLCPCB Basic Part: No; JLCPCB Part Number: C106145; Supplier 1: LCSC; Category: Capacitors - MLCC; Supplier Part Number 1: C106145; Tolerance: ±10%; Voltage Rating: 2kV; Temperature Coefficient: X7R; RoHS: Yes; ComponentLink1Description: Datasheet; ComponentLink1URL: https://wmsc.lcsc.com/wmsc/upload/file/pdf/v2/lcsc/2304140030_IHHEC-HOLY-STONE-ENTERPRISE-CO---LTD-C1812X103K202T_C106145.pdf; ComponentLink2Description: JLCPCB Part URL; ComponentLink2URL: https://jlcpcb.com/partdetail/C106145; ComponentLink3Description: LCSC Part URL; ComponentLink3URL: https://lcsc.com/product-detail/Multilayer-Ceramic-Capacitors-MLCC---SMD-SMT_IHHECHOLY-STONE-ENTERPRISE-CO.%2C-LTD-IHHECHOLY-STONE-ENTERPRISE-CO.%2C-LTD-C1812X103K202T_C106145.html
footprint CAP-1812 (1812 (4532M) Capacitor)
pins: 1, 2

## C1812X103K202TEP
designator C?  Capacitance: 10nF  (hidden comment: *)
Capacitor, Ceramic (MLCC), 10nF, 2kV, X7R, SMD 1812; Manufacturer: IHHEC(HOLY STONE ENTERPRISE CO., LTD); Manufacturer Part Number: C1812X103K202TEP; Package Size: 1812; JLCPCB Basic Part: No; JLCPCB Part Number: C2940740; Supplier 1: LCSC; Category: Capacitors - MLCC; Supplier Part Number 1: C2940740; Voltage Rating: 2kV; Temperature Coefficient: X7R; RoHS: Yes; ComponentLink1Description: Datasheet; ComponentLink1URL: https://wmsc.lcsc.com/wmsc/upload/file/pdf/v2/lcsc/2201121900_IHHEC-HOLY-STONE-ENTERPRISE-CO---LTD-C1812X103K202TEP_C2940740.pdf; ComponentLink2Description: JLCPCB Part URL; ComponentLink2URL: https://jlcpcb.com/partdetail/C2940740; ComponentLink3Description: LCSC Part URL; ComponentLink3URL: https://lcsc.com/product-detail/Multilayer-Ceramic-Capacitors-MLCC---SMD-SMT_IHHECHOLY-STONE-ENTERPRISE-CO.%2C-LTD-IHHECHOLY-STONE-ENTERPRISE-CO.%2C-LTD-C1812X103K202TEP_C2940740.html
footprint CAP-1812 (1812 (4532M) Capacitor)
pins: 1, 2

## C1812X103K302T
designator C?  Capacitance: 10nF  (hidden comment: *)
Capacitor, Ceramic (MLCC), 10nF, ±10%, 3kV, X7R, ±10%, SMD 1812; Manufacturer: IHHEC(HOLY STONE ENTERPRISE CO., LTD); Manufacturer Part Number: C1812X103K302T; Package Size: 1812; JLCPCB Basic Part: No; JLCPCB Part Number: C106146; Supplier 1: LCSC; Category: Capacitors - MLCC; Supplier Part Number 1: C106146; Tolerance: ±10%; Voltage Rating: 3kV; Temperature Coefficient: X7R; RoHS: Yes; ComponentLink1Description: Datasheet; ComponentLink1URL: https://wmsc.lcsc.com/wmsc/upload/file/pdf/v2/lcsc/2304140030_IHHEC-HOLY-STONE-ENTERPRISE-CO---LTD-C1812X103K302T_C106146.pdf; ComponentLink2Description: JLCPCB Part URL; ComponentLink2URL: https://jlcpcb.com/partdetail/C106146; ComponentLink3Description: LCSC Part URL; ComponentLink3URL: https://lcsc.com/product-detail/Multilayer-Ceramic-Capacitors-MLCC---SMD-SMT_IHHECHOLY-STONE-ENTERPRISE-CO.%2C-LTD-IHHECHOLY-STONE-ENTERPRISE-CO.%2C-LTD-C1812X103K302T_C106146.html
footprint CAP-1812 (1812 (4532M) Capacitor)
pins: 1, 2

## C1812X104K102T
designator C?  Capacitance: 100nF  (hidden comment: *)
Capacitor, Ceramic (MLCC), 100nF, ±10%, 1kV, X7R, ±10%, SMD 1812; Manufacturer: IHHEC(HOLY STONE ENTERPRISE CO., LTD); Manufacturer Part Number: C1812X104K102T; Package Size: 1812; JLCPCB Basic Part: No; JLCPCB Part Number: C106147; Supplier 1: LCSC; Category: Capacitors - MLCC; Supplier Part Number 1: C106147; Tolerance: ±10%; Voltage Rating: 1kV; Temperature Coefficient: X7R; RoHS: Yes; ComponentLink1Description: Datasheet; ComponentLink1URL: https://wmsc.lcsc.com/wmsc/upload/file/pdf/v2/lcsc/2304140030_IHHEC-HOLY-STONE-ENTERPRISE-CO---LTD-C1812X104K102T_C106147.pdf; ComponentLink2Description: JLCPCB Part URL; ComponentLink2URL: https://jlcpcb.com/partdetail/C106147; ComponentLink3Description: LCSC Part URL; ComponentLink3URL: https://lcsc.com/product-detail/Multilayer-Ceramic-Capacitors-MLCC---SMD-SMT_IHHECHOLY-STONE-ENTERPRISE-CO.%2C-LTD-IHHECHOLY-STONE-ENTERPRISE-CO.%2C-LTD-C1812X104K102T_C106147.html
footprint CAP-1812 (1812 (4532M) Capacitor)
pins: 1, 2